# EAGLE library part DRV8313 (library LARS_409_MC)
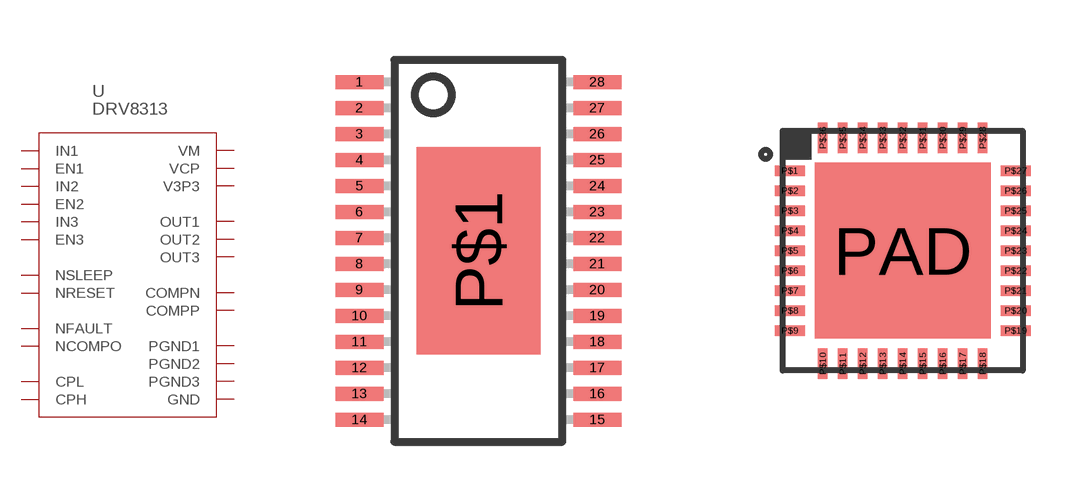
[diagram p42: symbol with the pads of TSSOP-28P; footprints TSSOP-28P, QFN36]

Designator prefix U

## DRV8313TSSOP  [TSSOP-28P]
1  CPL
2  CPH
3  VCP
4  VM
5  OUT1
6  PGND1
7  PGND2
8  OUT2
9  OUT3
10  PGND3
11  VM
12  COMPP
13  COMPN
14  GND
15  V3P3
16  NRESET
17  NSLEEP
18  NFAULT
19  NCOMPO
20  GND
21  GND
22  EN3
23  IN3
24  EN2
25  IN2
26  EN1
27  IN1
28  GND
P$1  GND

## DRV8313QFN  [QFN36]
P$1  EN1
P$2  IN1
P$3  GND
P$5  CPL
P$6  CPH
P$7  VCP
P$9  VM
P$10  OUT1
P$11  PGND1
P$12  PGND2
P$13  OUT2
P$15  OUT3
P$16  PGND3
P$17  GND
P$19  VM
P$20  GND
P$21  COMPP
P$22  COMPN
P$23  GND
P$24  GND
P$25  V3P3
P$26  NRESET
P$27  NSLEEP
P$28  NFAULT
P$29  NCOMPO
P$30  GND
P$31  GND
P$32  GND
P$33  EN3
P$34  IN3
P$35  EN2
P$36  IN2
PAD  GND

## Footprint TSSOP-28P (pad centres in mm)
Infineon P-TSSOP-28-1 TDA 6060 XS cross-ref_pFET-60v_p_chan.pdf
smd 1.2 x 0.35: 1 -2.975,4.225; 2 -2.975,3.575; 3 -2.975,2.925; 4 -2.975,2.275; 5 -2.975,1.625; 6 -2.975,0.975; 7 -2.975,0.325; 8 -2.975,-0.325; 9 -2.975,-0.975; 10 -2.975,-1.625; 11 -2.975,-2.275; 12 -2.975,-2.925; 13 -2.975,-3.575; 14 -2.975,-4.225; 15 2.975,-4.225; 16 2.975,-3.575; 17 2.975,-2.925; 18 2.975,-2.275; 19 2.975,-1.625; 20 2.975,-0.975; 21 2.975,-0.325; 22 2.975,0.325; 23 2.975,0.975; 24 2.975,1.625; 25 2.975,2.275; 26 2.975,2.925; 27 2.975,3.575; 28 2.975,4.225
smd 3.1 x 5.18: P$1 0,0

## Footprint QFN36 (pad centres in mm)
smd 0.75 x 0.24: P$1 -2.825,2; P$2 -2.825,1.5; P$3 -2.825,1; P$4 -2.825,0.5; P$5 -2.825,0; P$6 -2.825,-0.5; P$7 -2.825,-1; P$8 -2.825,-1.5; P$9 -2.825,-2; P$19 2.825,-2; P$20 2.825,-1.5; P$21 2.825,-1; P$22 2.825,-0.5; P$23 2.825,0; P$24 2.825,0.5; P$25 2.825,1; P$26 2.825,1.5; P$27 2.825,2
smd 0.24 x 0.75: P$10 -2,-2.825; P$11 -1.5,-2.825; P$12 -1,-2.825; P$13 -0.5,-2.825; P$14 0,-2.825; P$15 0.5,-2.825; P$16 1,-2.825; P$17 1.5,-2.825; P$18 2,-2.825; P$28 2,2.825; P$29 1.5,2.825; P$30 1,2.825; P$31 0.5,2.825; P$32 0,2.825; P$33 -0.5,2.825; P$34 -1,2.825; P$35 -1.5,2.825; P$36 -2,2.825
smd 4.4 x 4.4: PAD 0,0